# EAGLE library part TC1411 (library m_ic-power)
1A High Speed MOSFET Driver Features • Latch-Up Protected: Will Withstand 500mA Reverse Current • Input Will Withstand Negative Inputs Up to 5V • ESD Protected: 4kV • High Peak Output Current: 1A • Wide Input Supply Voltage Operating Range: - 4.5V to 16V • High Capacitive Load Drive Capability: - 1000pF in 25nsec • Short Delay Time: 30nsec Typ. • Matched Delay Times • Low Supply Current - With Logic ‘1’ Input: 500µA - With Logic ‘0’ Input: 100µA • Low Output Impedance: 8Ω • Available in Space-Saving 8-pin MSOP Package • Pinout Same as TC1410/TC1412/TC1413 Description The TC1411/TC1411N are 1A CMOS buffers/drivers. They will not latch-up under any conditions within their power and voltage ratings. They are not subject to damage when up to 5V of noise spiking of either polarity occurs on the ground pin. They can accept, without damage or logic upset, up to 500mA of current of either polarity being forced back into their output. All terminals are fully protected against up to 4kV of electrostatic discharge. As MOSFET drivers, the TC1411/TC1411N can easily charge a 1000pF gate capacitance in 25nsec with matched rise and fall times, and provide low enough impedance in both the ON and the OFF states to ensure the MOSFET’s intended state will not be affected, even by large transients. The leading and trailing edge propagation delay times are also matched to allow driving short-duration inputs with greater accuracy.
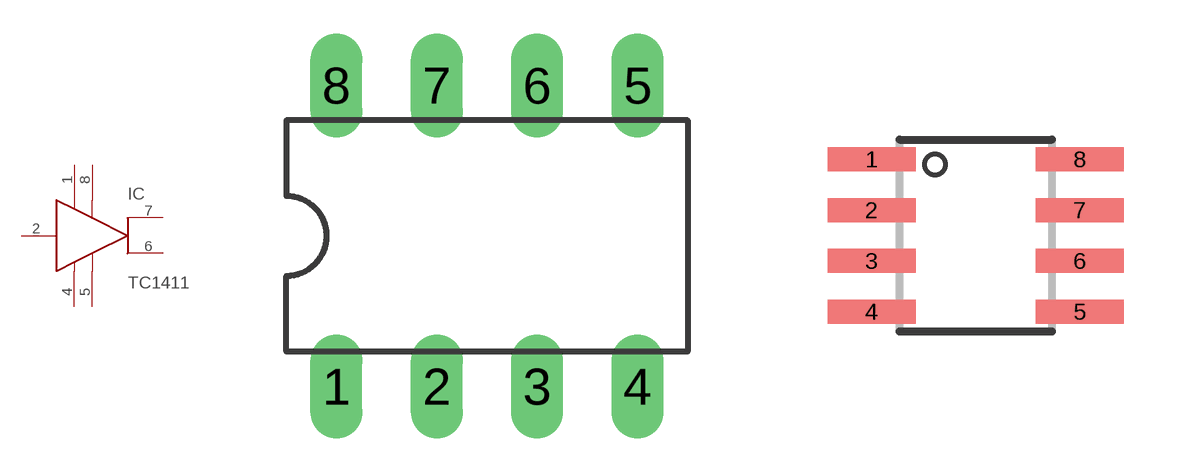
[diagram p3: symbol with the pads of DIL08; footprints DIL08, SO08]

Designator prefix IC

## TC1411DIL8  [DIL08]
1  VDD  pas
2  IN_A  in
4  GND  pas
5  GND1  pas
6  OUT_A  out
7  OUT_A1  out
8  VDD1  pas

## TC1411SO8  [SO08]
Pads as for DIL08

## Footprint DIL08 (pad centres in mm)
Dual In Line Package
drill 0.813 long: 1 -3.81,-3.81; 2 -1.27,-3.81; 3 1.27,-3.81; 4 3.81,-3.81; 5 3.81,3.81; 6 1.27,3.81; 7 -1.27,3.81; 8 -3.81,3.81

## Footprint SO08 (pad centres in mm)
Small Outline Package 8 NS Package M08A
smd 2.2 x 0.6: 1 -2.604,1.905; 2 -2.604,0.635; 3 -2.604,-0.635; 4 -2.604,-1.905; 5 2.604,-1.905; 6 2.604,-0.635; 7 2.604,0.635; 8 2.604,1.905